# Altium integrated library KBU607G.IntLib: 1 symbol
Pins are listed as number, name and electrical type; pins without a type are passive.

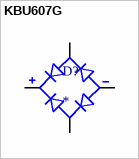
[diagram p0: symbol KBU607G]

## KBU607G
designator D?
6A, 1000V, Standard Bridge Rectifier; MF: Taiwan Semiconductor; MP: KBU607G; SnapEDA_Link: https://www.snapeda.com/parts/KBU607G/taiwan/view-part/?ref=snap; Package: KBU Taiwan Semiconductor; Value: *; Check_prices: https://www.snapeda.com/parts/KBU607G/taiwan/view-part/?ref=eda
footprint SIP695W125P510L2320H1980Q4
pins: AC1, AC2, NEG, POS